# Altium footprint library XTAL_ASFLMB-100.000MHZ-LC-T.PcbLib: 1 footprints
Each footprint in its own frame and in the unit in brackets; x right, y up, seen from the top. Pads: shape width x height; smd on the part's side, far side on the other; paste and mask are expansions set on the pad; w line width, h text height; cw(c..) or ccw(c..) is an arc to the next point about the centre after c.
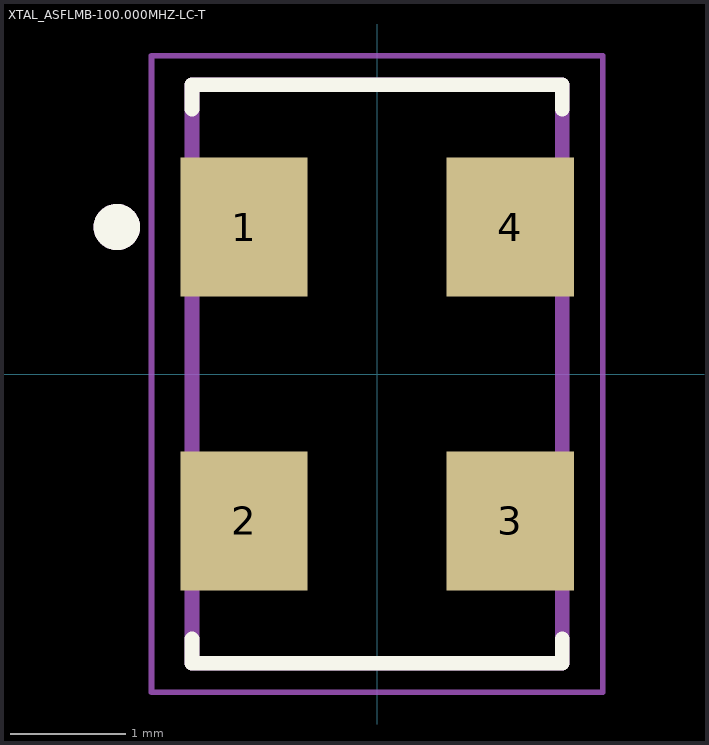
[diagram p0: the footprint, top view; thin cyan lines are the x and y axes]

## XTAL_ASFLMB-100.000MHZ-LC-T [mm]
height 0.9
pads (4):
  rect 1.1x1.2 smd: 1(-1.15,1.27) 2(-1.15,-1.27) 3(1.15,-1.27) 4(1.15,1.27)
Top Overlay:
  circle w0.2: c-2.25,1.27 r0.1
  lines w0.127: -1.6,-2.29 -1.6,-2.5 1.6,-2.5 1.6,-2.29 ; -1.6,2.29 -1.6,2.5 1.6,2.5 1.6,2.29
Mechanical 13:
  circle w0.2: c-2.25,1.27 r0.1
  lines w0.127: -1.6,-2.5 1.6,-2.5 1.6,2.5 -1.6,2.5 -1.6,-2.5
Mechanical 15:
  lines w0.05: -1.95,-2.75 1.95,-2.75 1.95,2.75 -1.95,2.75 -1.95,-2.75